# Altium footprint library C_EL.PcbLib: 18 footprints (part 1 of 2)
Each footprint in its own frame and in the unit in brackets; x right, y up, seen from the top. Pads: shape width x height; smd on the part's side, far side on the other; paste and mask are expansions set on the pad; w line width, h text height; cw(c..) or ccw(c..) is an arc to the next point about the centre after c.
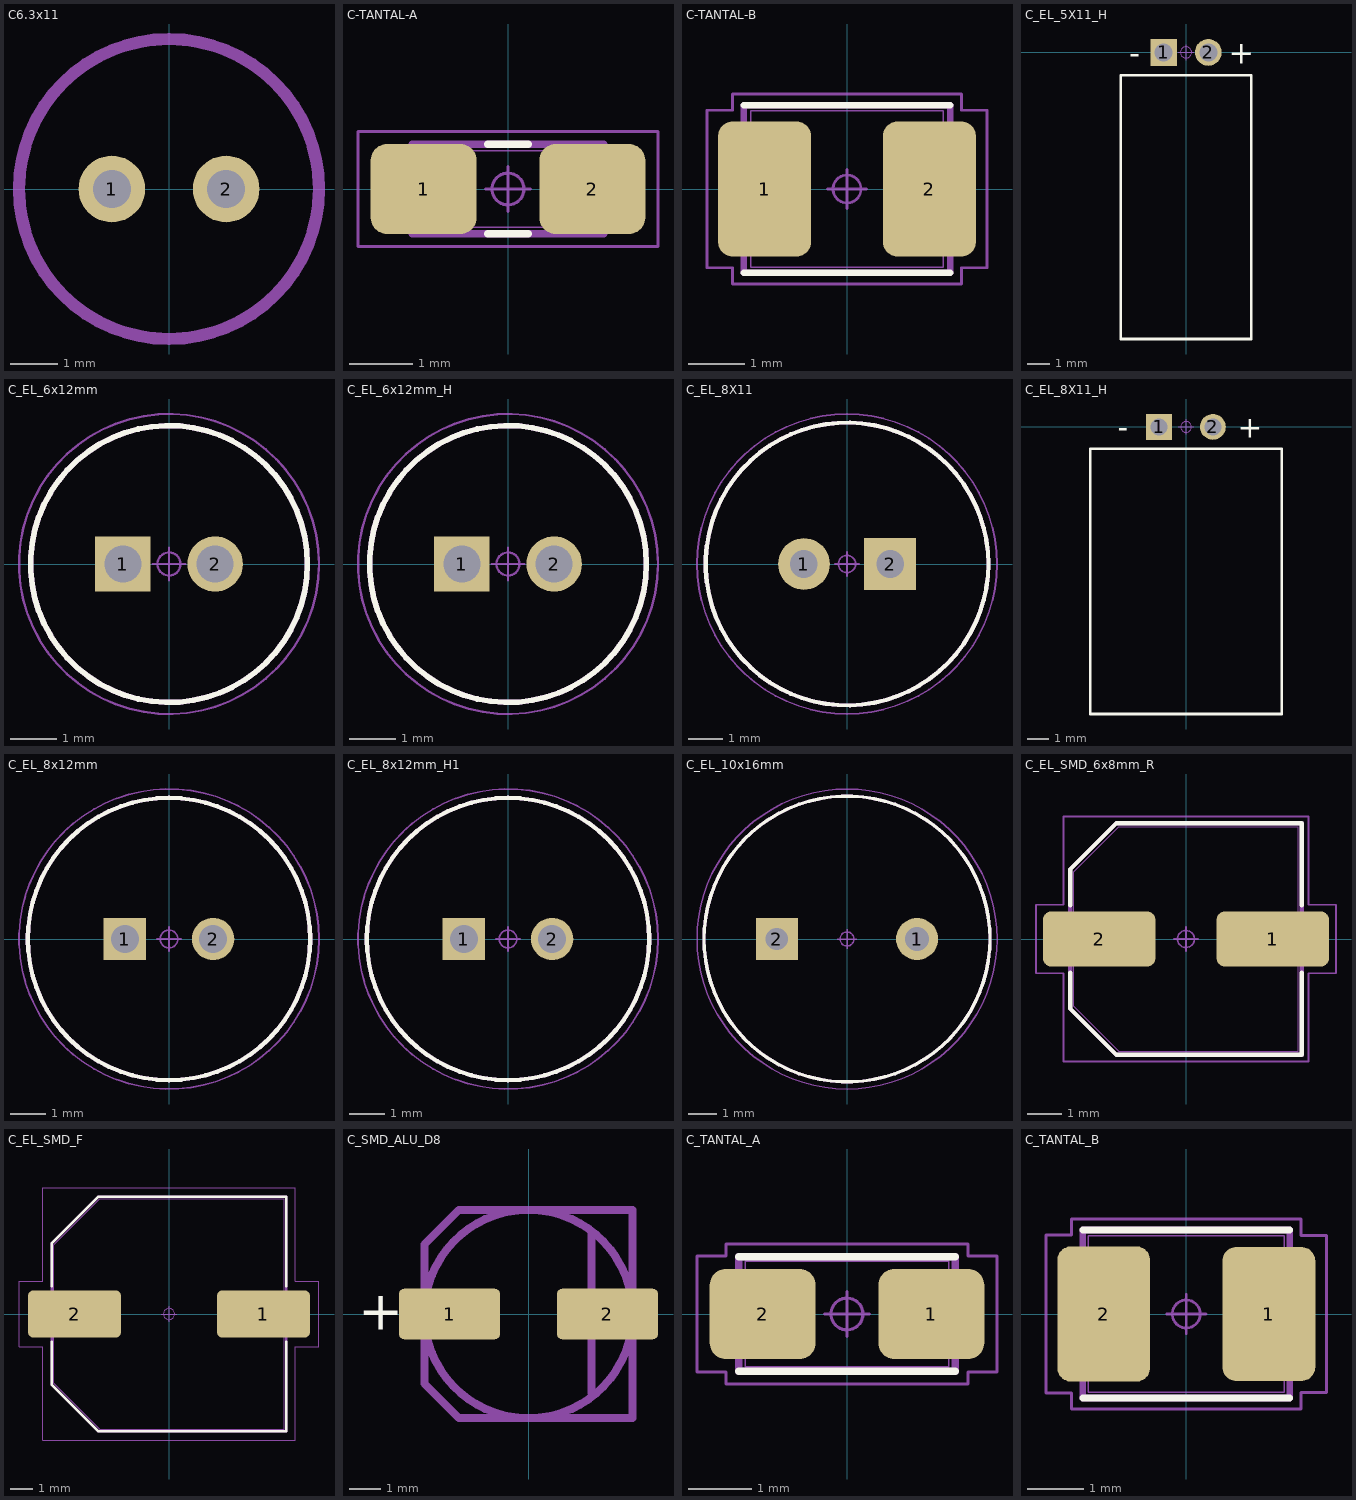
[diagram p0: the footprints below, top view; thin cyan lines are the x and y axes]

## C6.3x11 [mm]
pads (2):
  round 1.4 hole 0.8: 1(-1.2,0) 2(1.2,0)
Bottom Overlay:
  lines w0.254: -2.877,1.207 cw(c0,0) 2.885,1.19
  text "+" at -2.025,-1.025 h1.25
Top Assembly:
  circle w0.254: c0,0 r3.15
3D body "Nichicon MUSE 6,3x11.step": height 11.3, standoff -19, extent -3.15,-3.15 3.15,3.15

## C-TANTAL-A [mm] "Capacitor, Polarized, Molded Body; 3.20 mm L X 1.20 mm W X 1.80 mm H body"
height 1.8
pads (2):
  rrect35% 1.66x1.41 smd: 1(-1.325,0) 2(1.325,0)
Top Overlay:
  lines w0.12: -0.315,-0.7 0.315,-0.7 ; -0.315,0.7 0.315,0.7
Mechanical 11:
  lines w0.12: -1.5,-0.7 1.5,-0.7 1.5,0.7 -1.5,0.7 -1.5,-0.7
Mechanical 12:
  lines w0.025: -1.6,-0.55 -1.6,0.55 -0.75,0.55 -0.75,-0.55 -1.6,-0.55 ; -1.4,-0.6 1.4,-0.6 1.4,0.6 -1.4,0.6 -1.4,-0.6 ; 0.75,-0.55 1.6,-0.55 1.6,0.55 0.75,0.55 0.75,-0.55
Mechanical 15:
  circle w0.05: c0,0 r0.25
  lines w0.05: -0.35,0 0.35,0 ; 0,-0.35 0,0.35 ; -2.355,-0.905 -2.355,0.905 2.355,0.905 2.355,-0.905 -2.355,-0.905
3D body "CAPPM320X120X180L85X110.STEP": height 1.8, standoff 0, extent -1.6,-0.6 1.6,0.6

## C-TANTAL-B [mm] "Capacitor, Polarized, Molded Body; 3.45 mm L X 2.80 mm W X 2.10 mm H body"
height 2.1
pads (2):
  rrect30% 1.66x2.42 smd: 1(-1.475,0) 2(1.475,0)
Top Overlay:
  lines w0.12: -1.85,-1.5 1.85,-1.5 ; -1.85,1.5 1.85,1.5
Mechanical 11:
  lines w0.12: -1.85,-1.5 1.85,-1.5 1.85,1.5 -1.85,1.5 -1.85,-1.5
Mechanical 12:
  lines w0.025: -1.75,-1.1 -1.75,1.1 -0.9,1.1 -0.9,-1.1 -1.75,-1.1 ; -1.725,-1.4 1.725,-1.4 1.725,1.4 -1.725,1.4 -1.725,-1.4 ; 0.9,-1.1 1.75,-1.1 1.75,1.1 0.9,1.1 0.9,-1.1
Mechanical 15:
  circle w0.05: c0,0 r0.25
  lines w0.05: -0.35,0 0.35,0 ; 0,-0.35 0,0.35 ; -2.505,-1.41 -2.05,-1.41 -2.05,-1.7 2.05,-1.7 2.05,-1.41 2.505,-1.41 2.505,1.41 2.05,1.41 2.05,1.7 -2.05,1.7 -2.05,1.41 -2.505,1.41 -2.505,-1.41
3D body "CAPPM350X280X210L85X220.STEP": height 2.1, standoff 0, extent -1.75,-1.4 1.75,1.4

## C_EL_5X11_H [mm] "Capacitor, Polarized, Radial (Electrolytic); 2.00 mm C X 5.50 mm Dia X 11.50 mm H body"
height 11.5
pads (2):
  rect 1.2x1.2 / inner round 1.15 / far side rect 1.15x1.15 hole 0.8 paste-1.15: 1(-1,0)
  round 1.2 / inner round 1.15 / far side round 1.15 hole 0.8 paste-1.15: 2(1,0)
Top Overlay:
  lines w0.12: -2.921,-12.827 -2.921,-1.016 2.921,-1.016 2.921,-12.827 -2.921,-12.827
  text "-" at -2.54,-0.508 h1
  text "+" at 1.905,-0.508 h1
Mechanical 12:
  circle w0.025: c-1,0 r0.275
  circle w0.025: c1,0 r0.275
Mechanical 15:
  circle w0.05: c0,0 r0.25
  lines w0.05: -0.35,0 0.35,0 ; 0,-0.35 0,0.35
Mechanical 16:
  text ".Designator" at 0,0 h1.2
3D body "C_EL_5X11.STEP": height 5.35, standoff -0.15, extent -2.76,-12.76 2.75,0.75

## C_EL_6x12mm [mm] "Capacitor, Polarized, Radial (Electrolytic); 2.00 mm C X 6.00 mm Dia X 12.50 mm H body"
height 12.5
pads (2):
  rect 1.2x1.2 hole 0.8 paste-1.2: 1(-1,0)
  round 1.2 hole 0.8 paste-1.2: 2(1,0)
Top Overlay:
  circle w0.12: c0,0 r3
Mechanical 11:
  circle w0.12: c0,0 r3
Mechanical 12:
  circle w0.025: c-1,0 r0.3
  circle w0.025: c1,0 r0.3
  circle w0.025: c0,0 r3
Mechanical 15:
  circle w0.05: c0,0 r3.25
  circle w0.05: c0,0 r0.25
  lines w0.05: -0.35,0 0.35,0 ; 0,-0.35 0,0.35
3D body "CAPPRD200W50D600H1250.STEP": height 12.51, standoff -2, extent -3,-3 3.01,3

## C_EL_6x12mm_H [mm] "Capacitor, Polarized, Radial (Electrolytic); 2.00 mm C X 6.00 mm Dia X 12.50 mm H body"
height 12.5
pads (2):
  rect 1.2x1.2 hole 0.8 paste-1.2: 1(-1,0)
  round 1.2 hole 0.8 paste-1.2: 2(1,0)
Top Overlay:
  circle w0.12: c0,0 r3
Mechanical 11:
  circle w0.12: c0,0 r3
Mechanical 12:
  circle w0.025: c0,0 r3
  circle w0.025: c1,0 r0.3
  circle w0.025: c-1,0 r0.3
Mechanical 15:
  circle w0.05: c0,0 r0.25
  circle w0.05: c0,0 r3.25
  lines w0.05: -0.35,0 0.35,0 ; 0,-0.35 0,0.35
3D body "CAPPRD200W50D600H1250.STEP": height 6.2, standoff 0.2, extent -3.01,-13.76 3,0.75

## C_EL_8X11 [mm] "Capacitor, Polarized, Radial (Electrolytic); 2.50 mm C X 8.20 mm Dia X 11.50 mm H body"
height 11.5
pads (2):
  round 1.5 hole 0.8 paste-1.15: 1(-1.25,0)
  rect 1.5x1.5 hole 0.8 paste-1.15: 2(1.25,0)
Top Overlay:
  circle w0.12: c0,0 r4.1
Mechanical 11:
  circle w0.12: c0,0 r4.1
Mechanical 12:
  circle w0.025: c-1.25,0 r0.275
  circle w0.025: c1.25,0 r0.275
  circle w0.025: c0,0 r4.1
Mechanical 15:
  circle w0.05: c0,0 r4.35
  circle w0.05: c0,0 r0.25
  lines w0.05: -0.35,0 0.35,0 ; 0,-0.35 0,0.35
Mechanical 16:
  text ".Designator" at 0,0 h1.2
3D body "C_EL_8X11.STEP": height 11.51, standoff -2, extent -4.11,-4.1 4.1,4.1

## C_EL_8X11_H [mm] "Capacitor, Polarized, Radial (Electrolytic); 2.50 mm C X 8.20 mm Dia X 11.50 mm H body"
height 11.5
pads (2):
  rect 1.2x1.2 / inner round 1.15 / far side rect 1.15x1.15 hole 0.8 paste-1.15: 1(-1.25,0)
  round 1.2 / inner round 1.15 / far side round 1.15 hole 0.8 paste-1.15: 2(1.25,0)
Top Overlay:
  lines w0.12: -4.445,-13.335 4.445,-13.335 4.445,-1.016 -4.445,-1.016 -4.445,-13.335
  text "-" at -3.175,-0.508 h1
  text "+" at 2.413,-0.508 h1
Mechanical 12:
  circle w0.025: c-1.25,0 r0.275
  circle w0.025: c1.25,0 r0.275
Mechanical 15:
  circle w0.05: c0,0 r0.25
  lines w0.05: -0.35,0 0.35,0 ; 0,-0.35 0,0.35
Mechanical 16:
  text ".Designator" at 0,0 h1.2
3D body "C_EL_8X11.STEP": height 8.3, standoff 0.1, extent -4.11,-13.01 4.1,0.5

## C_EL_8x12mm [mm] "Capacitor, Polarized, Radial (Electrolytic); 2.00 mm C X 6.00 mm Dia X 12.50 mm H body"
height 12.5
pads (2):
  rect 1.2x1.2 hole 0.8 paste-1.2: 1(-1.25,0)
  round 1.2 hole 0.8 paste-1.2: 2(1.25,0)
Top Overlay:
  circle w0.12: c0,0 r4
Mechanical 11:
  circle w0.12: c0,0 r4
Mechanical 12:
  circle w0.025: c-1,0 r0.3
  circle w0.025: c1,0 r0.3
  circle w0.025: c0,0 r4
Mechanical 15:
  circle w0.05: c0,0 r4.25
  circle w0.05: c0,0 r0.25
  lines w0.05: -0.35,0 0.35,0 ; 0,-0.35 0,0.35
3D body "CP_Radial_D8.0mm_P2.50mm.step": height 8, standoff -2, extent -4,-3.999 4,3.998

## C_EL_8x12mm_H1 [mm] "Capacitor, Polarized, Radial (Electrolytic); 2.00 mm C X 6.00 mm Dia X 12.50 mm H body"
height 12.5
pads (2):
  rect 1.2x1.2 hole 0.8 paste-1.2: 1(-1.25,0)
  round 1.2 hole 0.8 paste-1.2: 2(1.25,0)
Top Overlay:
  circle w0.12: c0,0 r4
Mechanical 11:
  circle w0.12: c0,0 r4
Mechanical 12:
  circle w0.025: c0,0 r4
  circle w0.025: c1,0 r0.3
  circle w0.025: c-1,0 r0.3
Mechanical 15:
  circle w0.05: c0,0 r0.25
  circle w0.05: c0,0 r4.25
  lines w0.05: -0.35,0 0.35,0 ; 0,-0.35 0,0.35
3D body "CP_Radial_D8.0mm_P2.50mm.step": height 8.2, standoff 0.2, extent -4,-9.25 4,0.75

## C_EL_10x16mm [mm] "Capacitor, Polarized, Radial (Electrolytic); 5.00 mm C X 10.20 mm Dia X 16.00 mm H body"
height 16
pads (2):
  round 1.5 hole 0.85 paste-1.28: 1(2.5,0)
  rect 1.5x1.5 hole 0.8 paste-1.28: 2(-2.5,0)
Top Overlay:
  circle w0.12: c0,0 r5.1
Mechanical 11:
  circle w0.12: c0,0 r5.1
Mechanical 12:
  circle w0.025: c0,0 r5.1
  circle w0.025: c2.5,0 r0.325
  circle w0.025: c-2.5,0 r0.325
Mechanical 15:
  circle w0.05: c0,0 r0.25
  circle w0.05: c0,0 r5.35
  lines w0.05: -0.35,0 0.35,0 ; 0,-0.35 0,0.35
3D body "CAPPRD500W60D1020H1600.STEP": height 16.01, standoff -2, extent -5.1,-5.1 5.11,5.1

## C_EL_SMD_6x8mm_R [mm] "Capacitor, Aluminum Electrolytic; 6.60 mm L X 6.60 mm W X 8.00 mm H body"
height 8
pads (2):
  rrect31% 3.31x1.62 smd: 1(2.55,0) 2(-2.55,0)
Top Overlay:
  lines w0.12: -3.4,-0.99 -3.4,-2.04 -2.04,-3.4 3.4,-3.4 3.4,-0.99 ; -3.4,0.99 -3.4,2.04 -2.04,3.4 3.4,3.4 3.4,0.99
Mechanical 11:
  lines w0.12: -3.4,-2.04 -3.4,2.04 -2.04,3.4 3.4,3.4 3.4,-3.4 -2.04,-3.4 -3.4,-2.04
Mechanical 12:
  lines w0.025: -3.55,-0.325 -3.55,0.325 -0.95,0.325 -0.95,-0.325 -3.55,-0.325 ; -3.3,-1.98 -3.3,1.98 -1.98,3.3 3.3,3.3 3.3,-3.3 -1.98,-3.3 -3.3,-1.98 ; 0.95,-0.325 3.55,-0.325 3.55,0.325 0.95,0.325 0.95,-0.325
Mechanical 15:
  circle w0.05: c0,0 r0.25
  lines w0.05: -0.35,0 0.35,0 ; 0,-0.35 0,0.35 ; -4.405,-1.01 -3.6,-1.01 -3.6,-3.6 3.6,-3.6 3.6,-1.01 4.405,-1.01 4.405,1.01 3.6,1.01 3.6,3.6 -3.6,3.6 -3.6,1.01 -4.405,1.01 -4.405,-1.01
Mechanical 16:
  text ".Designator" at 0,0 h1.2
3D body "CAPAE660X800D710L260X65.STEP": height 8, standoff 0, extent -3.6,-3.3 3.6,3.3

## C_EL_SMD_F [mm] "Capacitor, Aluminum Electrolytic; 10.30 mm L X 10.30 mm W X 10.60 mm H body"
height 10.6
pads (2):
  rrect24% 4.17x2.12 smd: 1(4.225,0) 2(-4.225,0)
Top Overlay:
  lines w0.12: -5.25,-1.24 -5.25,-3.15 -3.15,-5.25 5.25,-5.25 5.25,-1.24 ; -5.25,1.24 -5.25,3.15 -3.15,5.25 5.25,5.25 5.25,1.24
Mechanical 11:
  lines w0.12: -5.25,-3.15 -5.25,3.15 -3.15,5.25 5.25,5.25 5.25,-5.25 -3.15,-5.25 -5.25,-3.15
Mechanical 12:
  lines w0.025: -5.5,-0.475 -5.5,0.475 -2.2,0.475 -2.2,-0.475 -5.5,-0.475 ; -5.15,-3.09 -5.15,3.09 -3.09,5.15 5.15,5.15 5.15,-5.15 -3.09,-5.15 -5.15,-3.09 ; 2.2,-0.475 5.5,-0.475 5.5,0.475 2.2,0.475 2.2,-0.475
Mechanical 15:
  circle w0.05: c0,0 r0.25
  lines w0.05: -0.35,0 0.35,0 ; 0,-0.35 0,0.35 ; -6.71,-1.46 -5.65,-1.46 -5.65,-5.65 5.65,-5.65 5.65,-1.46 6.71,-1.46 6.71,1.46 5.65,1.46 5.65,5.65 -5.65,5.65 -5.65,1.46 -6.71,1.46 -6.71,-1.46
Mechanical 16:
  text ".Designator" at 0,0 h1.2
3D body "CAPAE1030X1060D1100L330X95.STEP": height 10.6, standoff 0, extent -5.55,-5.15 5.55,5.15

## C_SMD_ALU_D8 [mm]
pads (2):
  rrect20% 3.2x1.6 smd mask+0.07: 1(-2.5,0) 2(2.5,0)
Top Overlay:
  text "+" at -5.4,-0.5 h1.25
Top Assembly:
  circle w0.254: c0,0 r3.3
  lines w0.254: 2,-2.5 2,2.6 ; -3.3,-2.2 -3.3,2.2 -2.2,3.3 3.3,3.3 3.3,-3.3 -2.2,-3.3 -3.3,-2.2
3D body "User Library-ALU-D.STEP": height 5.4, standoff 0, extent -3.5,-3.3 3.5,3.3

## C_TANTAL_A [mm] "Capacitor, Polarized, Molded Body; 3.20 mm L X 1.65 mm W X 1.80 mm H body"
height 1.8
pads (2):
  rrect35% 1.66x1.42 smd: 1(1.325,0) 2(-1.325,0)
Top Overlay:
  lines w0.12: -1.7,-0.9 1.7,-0.9 ; -1.7,0.9 1.7,0.9
Mechanical 11:
  lines w0.12: -1.7,-0.9 -1.7,0.9 1.7,0.9 1.7,-0.9 -1.7,-0.9
Mechanical 12:
  lines w0.025: -1.6,-0.825 -1.6,0.825 1.6,0.825 1.6,-0.825 -1.6,-0.825 ; -1.6,-0.6 -0.75,-0.6 -0.75,0.6 -1.6,0.6 -1.6,-0.6 ; 0.75,-0.6 0.75,0.6 1.6,0.6 1.6,-0.6 0.75,-0.6
Mechanical 15:
  circle w0.05: c0,0 r0.25
  lines w0.05: -0.35,0 0.35,0 ; 0,-0.35 0,0.35 ; -2.355,-0.91 -2.355,0.91 -1.9,0.91 -1.9,1.1 1.9,1.1 1.9,0.91 2.355,0.91 2.355,-0.91 1.9,-0.91 1.9,-1.1 -1.9,-1.1 -1.9,-0.91 -2.355,-0.91
Mechanical 16:
  text ".Designator" at 0,0 h1.2
3D body "CAPPM320X165X180L85X120.STEP": height 1.8, standoff 0, extent -1.6,-0.825 1.6,0.825

## C_TANTAL_B [mm] "Capacitor, Polarized, Molded Body; 3.50 mm L X 2.80 mm W X 2.10 mm H body"
height 2.1
pads (2):
  rrect30% 1.66x2.4 smd: 1(1.475,0)
  rrect30% 1.66x2.42 smd: 2(-1.475,0)
Top Overlay:
  lines w0.12: -1.85,-1.5 1.85,-1.5 ; -1.85,1.5 1.85,1.5
Mechanical 11:
  lines w0.12: -1.85,-1.5 1.85,-1.5 1.85,1.5 -1.85,1.5 -1.85,-1.5
Mechanical 12:
  lines w0.025: -1.75,-1.4 1.75,-1.4 1.75,1.4 -1.75,1.4 -1.75,-1.4 ; -1.75,-1.1 -1.75,1.1 -0.9,1.1 -0.9,-1.1 -1.75,-1.1 ; 0.9,-0.85 1.75,-0.85 1.75,0.85 0.9,0.85 0.9,-0.85
Mechanical 15:
  circle w0.05: c0,0 r0.25
  lines w0.05: -0.35,0 0.35,0 ; 0,-0.35 0,0.35 ; -2.505,-1.41 -2.05,-1.41 -2.05,-1.7 2.05,-1.7 2.05,-1.4 2.505,-1.4 2.505,1.4 2.05,1.4 2.05,1.7 -2.05,1.7 -2.05,1.41 -2.505,1.41 -2.505,-1.41
Mechanical 16:
  text ".Designator" at 0,0 h1.2
3D body "C_TANTAL_B.STEP": height 2.1, standoff 0, extent -1.75,-1.4 1.75,1.4